# EAGLE library part S14PIN (library jst_eh)
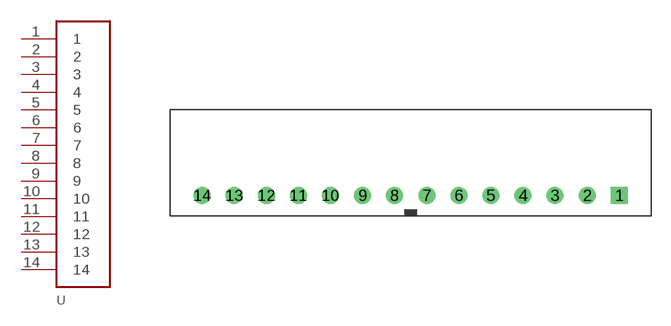
[diagram p18: symbol with the pads of S14B-EH; footprint S14B-EH]

Designator prefix -

## S14PIN  [S14B-EH]
1  1
2  2
3  3
4  4
5  5
6  6
7  7
8  8
9  9
10  10
11  11
12  12
13  13
14  14

## Footprint S14B-EH (pad centres in mm)
drill 0.813 square: 1 16.25,0
drill 0.813: 2 13.75,0; 3 11.25,0; 4 8.75,0; 5 6.25,0; 6 3.75,0; 7 1.25,0; 8 -1.25,0; 9 -3.75,0; 10 -6.25,0; 11 -8.75,0; 12 -11.25,0; 13 -13.75,0; 14 -16.25,0